# EAGLE library part CON_LCDBRD_16W (library df4iah_connector)
FEMALE HEADER
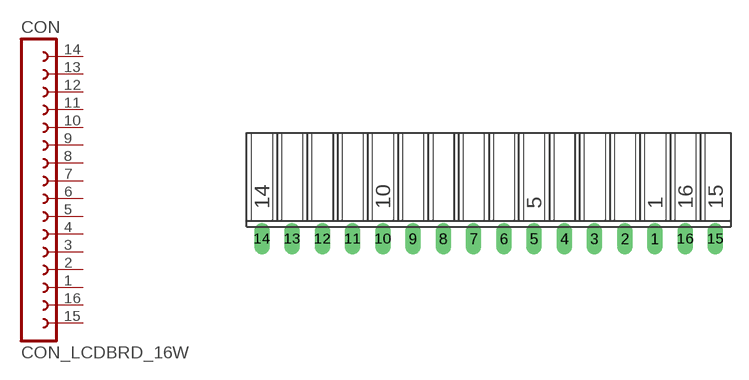
[diagram p10: symbol with the pads of CON_LCDBRD_16W; footprint CON_LCDBRD_16W]

Designator prefix CON

## CON_LCDBRD_16W (OC_FARNELL: unknown; OC_NEWARK: unknown)  [CON_LCDBRD_16W]
1  1  pas
2  2  pas
3  3  pas
4  4  pas
5  5  pas
6  6  pas
7  7  pas
8  8  pas
9  9  pas
10  10  pas
11  11  pas
12  12  pas
13  13  pas
14  14  pas
15  15  pas
16  16  pas

## Footprint CON_LCDBRD_16W (pad centres in mm)
FEMALE HEADER
drill 0.813 long: 1 33.02,0; 2 30.48,0; 3 27.94,0; 4 25.4,0; 5 22.86,0; 6 20.32,0; 7 17.78,0; 8 15.24,0; 9 12.7,0; 10 10.16,0; 11 7.62,0; 12 5.08,0; 13 2.54,0; 14 0,0; 15 38.1,0; 16 35.56,0